# Altium footprint library mb1246b.brd.PcbLib: 73 footprints (part 1 of 6)
Each footprint in its own frame and in the unit in brackets; x right, y up, seen from the top. Pads: shape width x height; smd on the part's side, far side on the other; paste and mask are expansions set on the pad; w line width, h text height; cw(c..) or ccw(c..) is an arc to the next point about the centre after c.
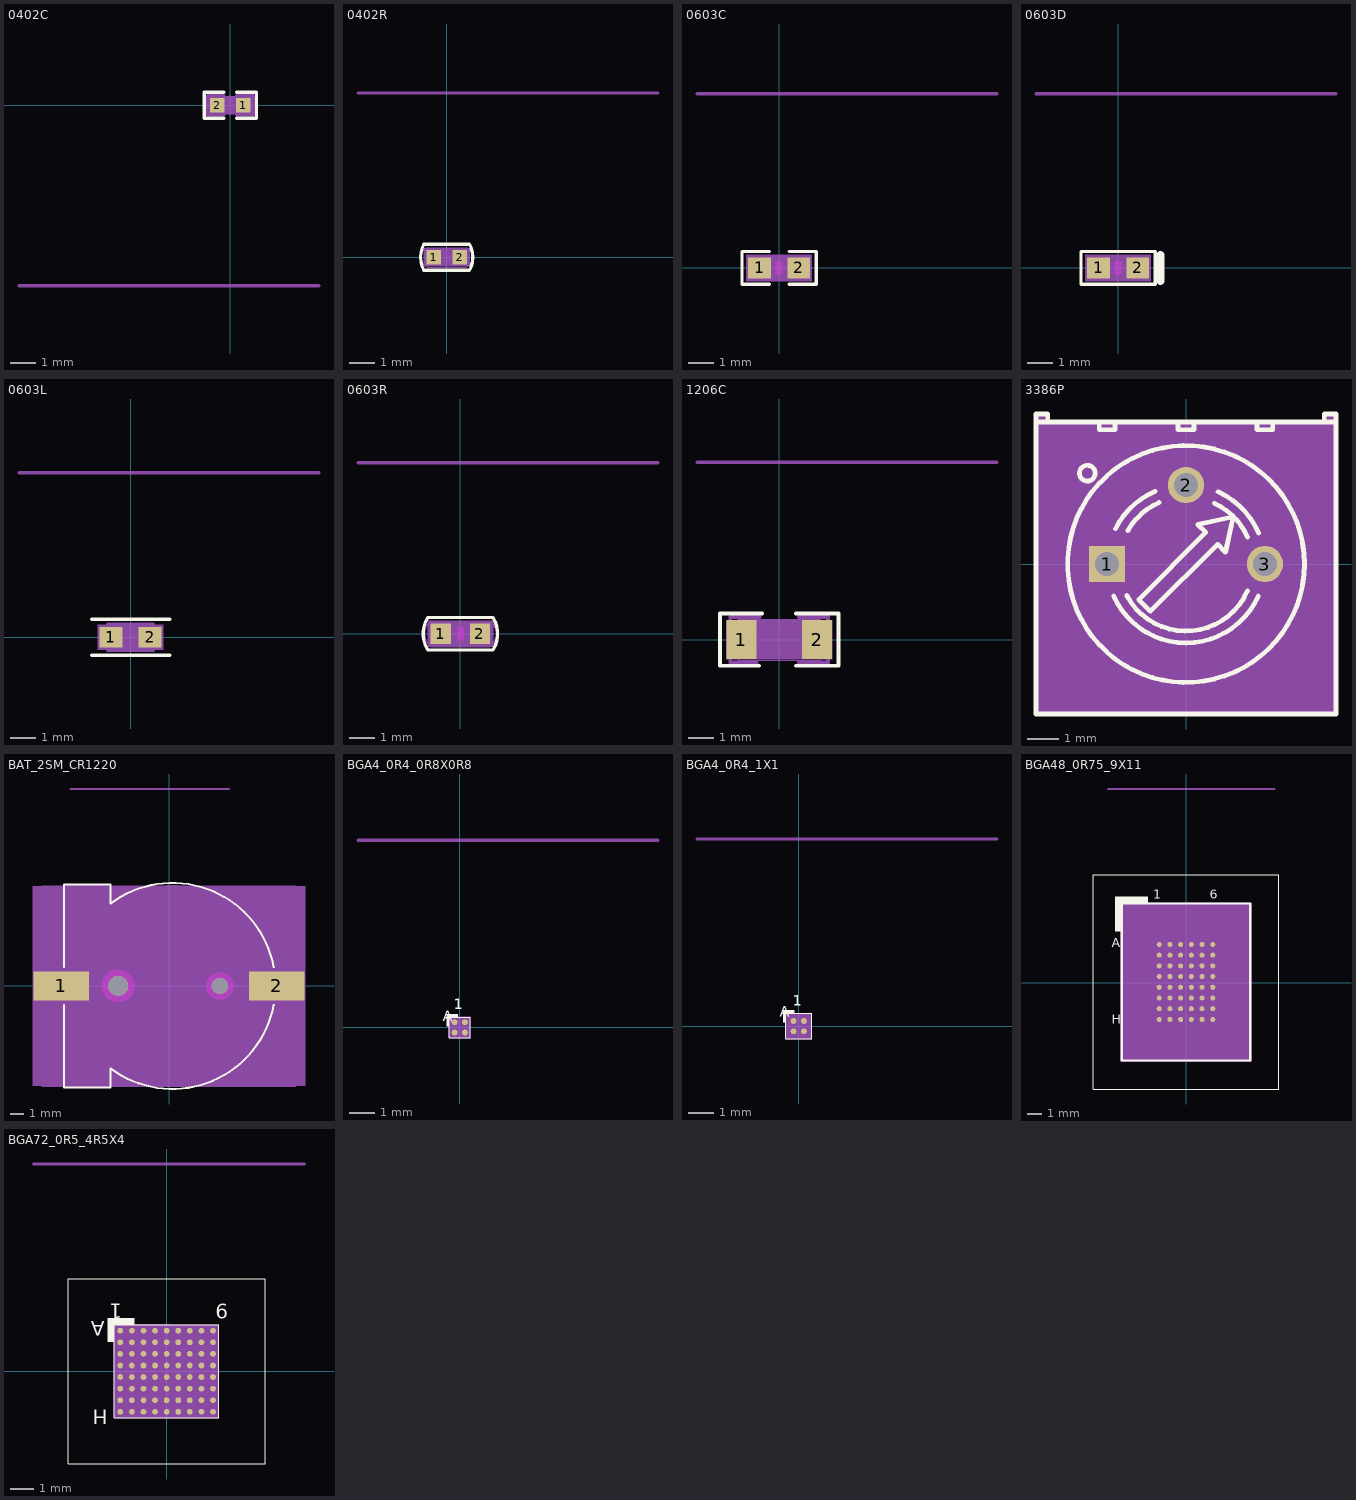
[diagram p0: the footprints below, top view; thin cyan lines are the x and y axes]

## 0402C [mil] "0402C"
pads (2):
  rect 22x22 smd: 1(20,0) 2(-20,0)
Top Overlay:
  lines w5: -10,-20 -40,-20 -40,20 -10,20 ; 10,-20 40,-20 40,20 10,20
Top 3D Body:
  region: 35,14 35,-14 -35,-14 -35,14
Top Component Center:
  circle w1: c0,0 r11.81
  lines w1: -15.75,0 15.75,0 ; 0,-15.75 0,15.75
Top Assembly:
  lines w5: -10,-15 -35,-15 -35,15 -10,15 ; 10,-15 35,-15 35,15 10,15
  text ".Designator" at -32,10 h20
  text "100nF" at -40,10 h20
Mechanical42:
  text "1" at 13.6,0 h16
  text "2" at -26.4,0 h16
Mechanical44:
  lines w5: -324,-277 136,-277
  text "Creat : Sofer Tech" at 106,-197 h25
  text "Sofer Lib Information" at 136,-287 h25
  text "Ref PN: ***" at 106,-237 h25
  text "Date  : 2008-12-12" at 106,-157 h25
  text "Rev   : A1" at 106,-117 h25
  text "Remark: ***" at 106,-77 h25
Mechanical45:
  text "C0402" at -50,65 h25
Mechanical46:
  text "NO" at -23,15 h35
Mechanical48:
  lines w1: -20,-10 20,-10 20,10 -20,10 -20,-10
3D body: height 150, standoff 0, extent -35,-14 35,14

## 0402R [mil] "0402R"
pads (2):
  rect 22x22 smd: 1(-20,0) 2(20,0)
Top Overlay:
  lines w5: -35,-20 cw(c2.5,0) -35,20 35,20 cw(c-2.5,0) 35,-20 -35,-20
Top 3D Body:
  region: -35,-14 -35,14 35,14 35,-14
Top Component Center:
  circle w1: c0,0 r11.81
  circle w1: c0,0 r11.81
  lines w1: -15.75,0 15.75,0 -15.75,0 ; 0,-15.75 0,15.75 0,-15.75
Top Assembly:
  lines w1: -30,-15 cw(c-23.75,0) -30,15 30,15 cw(c23.75,0) 30,-15 -30,-15
  text ".Designator" at -32,-10 h20
  text "10K" at -24,-10 h20
Mechanical42:
  text "2" at 13.6,0 h16
  text "1" at -26.4,0 h16
Mechanical44:
  lines w5: -136,252 324,252
  text "Creat : Sofer Tech" at -106,172 h25
  text "Sofer Lib Information" at -136,262 h25
  text "Ref PN: ***" at -106,212 h25
  text "Date  : 2007-11-24" at -106,132 h25
  text "Rev   : A4" at -106,92 h25
  text "Remark: ***" at -106,52 h25
Mechanical45:
  text "R0402" at -50,-55 h25
Mechanical48:
  lines w1: -20,-10 20,-10 20,10 -20,10 -20,-10
Mechanical49:
  text "Approved" at -77,-10 h35
3D body: height 150, standoff 0, extent -35,-14 35,14

## 0603C [mil] "0603C"
pads (2):
  rect 35x32 smd: 1(-30,0) 2(30,0)
Top Layer keep-out:
  region: -5,-10 5,-10 5,10 -5,10
Top Overlay:
  lines w5: -15,-25 -57,-25 -57,25 -15,25 ; 15,-25 57,-25 57,25 15,25
Top Courtyard:
  dashed: -50,-20 50,-20 50,20 -50,20
Top 3D Body:
  region: -50,-20 -50,20 50,20 50,-20
Top Component Center:
  circle w1: c0,0 r11.81
  lines w1: -15.75,0 15.75,0 ; 0,-15.75 0,15.75
Top Assembly:
  lines w1: -15,-20 -50,-20 -50,20 -30,20 -15,20 ; 15,-20 50,-20 50,20 15,20
  text ".Designator" at -40,-12.67 h25
  text "100nF" at -40,-10 h20
Mechanical42:
  text "2" at 23.6,0 h16
  text "1" at -36.4,0 h16
Mechanical44:
  lines w5: -126,267 334,267
  text "Sofer Lib Information" at -126,277 h25
  text "Ref PN: ***" at -96,227 h25
  text "Creat : Sofer Tech" at -96,187 h25
  text "Date  : 2007-05-10" at -96,147 h25
  text "Rev   : B1" at -96,107 h25
  text "Remark: ***" at -96,67 h25
Mechanical45:
  text "C0603" at -60,-65 h30
Mechanical48:
  lines w1: -35,-20 35,-20 35,20 -35,20 -35,-20
Mechanical49:
  text "Approved" at -112,0 h35
3D body: height 150, standoff 0, extent -50,-20 50,20

## 0603D [mil] "0603D"
pads (2):
  rect 35x32 smd: 1(-30,0) 2(30,0)
Top Layer keep-out:
  region: -5,-10 5,-10 5,10 -5,10
Top Overlay:
  lines w5: -57,-25 -57,25 57,25 57,-25 -57,-25
  lines w12: 65,-20 65,20
Top Courtyard:
  dashed: -50,-20 50,-20 50,20 -50,20
Top 3D Body:
  lines w1: -50,-20 -50,20 50,20 50,-20 -50,-20
Top Component Center:
  circle w1: c0,0 r11.81
  lines w1: -15.75,0 15.75,0 ; 0,-15.75 0,15.75
Top Assembly:
  dashed: 40,20 40,-20 50,-20 50,20
  lines w1: -15,-20 -50,-20 -50,20 -30,20 -15,20 ; 15,-20 50,-20 50,20 15,20
  text "Red" at -24,-10 h20
  text ".Designator" at -30,-12.67 h25
Mechanical42:
  text "2" at 23.6,0 h16
  text "1" at -36.4,0 h16
Mechanical44:
  lines w5: -126,267 334,267
  text "Rev   : B1" at -96,107 h25
  text "Date  : 2007-05-10" at -96,147 h25
  text "Creat : Sofer Tech" at -96,187 h25
  text "Ref PN: ***" at -96,227 h25
  text "Sofer Lib Information" at -126,277 h25
Mechanical45:
  text "d0603" at -60,-65 h30
Mechanical48:
  lines w1: -35,-20 -35,20 35,20 35,-20 -35,-20
Mechanical49:
  text "Approved" at -112,0 h35

## 0603L [mil] "0603L"
pads (2):
  rect 35x32 smd: 1(-30,0) 2(30,0)
Top Overlay:
  lines w5: -60,27.5 60,27.5 ; -15,-27.5 -60,-27.5 60,-27.5
Top Courtyard:
  dashed: -50,-19 50,-19 50,19 -50,19
Top 3D Body:
  region: -50,-19 50,-19 50,19 -50,19
Top Component Center:
  circle w1: c0,0 r11.81
  lines w1: -15.75,0 15.75,0 ; 0,-15.75 0,15.75
Top Assembly:
  lines w5: -35,-20 35,-20 ; -35,20 35,20
  text "BEAD" at 0,-123 h30
  text ".Designator" at 0,-36.67 h30
Mechanical42:
  text "2" at 30,-6.4 h16
  text "1" at -30,-6.4 h16
Mechanical44:
  lines w5: -171,252 289,252
  text "Remark: ***" at -141,52 h25
  text "Rev   : B1" at -141,92 h25
  text "Date  : 2007-11-27" at -141,132 h25
  text "Creat : Sofer Tech" at -141,172 h25
  text "Ref PN: ***" at -141,212 h25
  text "Sofer Lib Information" at -171,262 h25
Mechanical45:
  text "L0603" at -5,-130 h30
Mechanical48:
  lines w1: -35,-20 -35,20 35,20 35,-20 -35,-20
Mechanical49:
  text "Approved" at 15,-123.67 h35
3D body: height 150, standoff 0, extent -50,-19 50,19

## 0603R [mil] "0603R"
pads (2):
  rect 31x32 smd: 1(-30,0) 2(30,0)
Top Layer keep-out:
  region: -5,10 -5,-10 5,-10 5,10
Top Overlay:
  lines w5: -50,-25 cw(c-8.86,0) -50,25 50,25 cw(c8.86,0) 50,-25 -50,-25
Top Courtyard:
  dashed: -50,-20 50,-20 50,20 -50,20
Top 3D Body:
  region: -50,-20 -50,20 50,20 50,-20
Top Component Center:
  circle w1: c0,0 r11.81
  lines w1: -15.75,0 15.75,0 ; 0,-15.75 0,15.75
Top Assembly:
  lines w1: -45,-20 cw(c-30,0) -45,20 45,20 cw(c30,0) 45,-20 -45,-20
  text "220K" at -32,-10 h20
  text ".Designator" at -41,-12 h25
Mechanical42:
  text "2" at 23.6,0 h16
  text "1" at -36.4,0 h16
Mechanical44:
  lines w5: -157,262 303,262
  text "Remark: ***" at -127,62 h25
  text "Rev   : B1" at -127,102 h25
  text "Date  : 2007-05-10" at -127,142 h25
  text "Creat : Sofer Tech" at -127,182 h25
  text "Ref PN: ***" at -127,222 h25
  text "Sofer Lib Information" at -157,272 h25
Mechanical45:
  text "R0603" at -60,-65 h30
Mechanical48:
  lines w1: -35,-20 -35,20 35,20 35,-20 -35,-20
Mechanical49:
  text "Approved" at -112,0 h35
3D body: height 150, standoff 0, extent -50,-20 50,20

## 1206C [mil] "1206C"
pads (2):
  rect 46x60 smd: 1(-58,0) 2(58,0)
Top Overlay:
  lines w6: -31,-40 -91,-40 -91,40 -26,40 ; 26,-40 91,-40 91,40 26,40
Top 3D Body:
  region: -81,-30 81,-30 81,30 -81,30
Top Component Center:
  circle w1: c0,0 r11.81
  lines w1: -15.75,0 15.75,0 ; 0,-15.75 0,15.75
Top Assembly:
  lines w6: -35,-35 -75,-35 -75,35 -30,35 ; 30,-35 75,-35 75,35 30,35
  text "2.2uF[N_A]" at -10,-200 h30
  text ".Designator" at -51,-21.67 h35
Mechanical42:
  text "2" at 58,-6.4 h16
  text "1" at -58,-6.4 h16
Mechanical44:
  lines w5: -126,272 334,272
  text "Remark: ***" at -96,72 h25
  text "Rev   : C1" at -96,112 h25
  text "Date  : 2010-12-15" at -96,152 h25
  text "Creat : Sofer Tech" at -96,192 h25
  text "Ref PN: ***" at -96,232 h25
  text "Sofer Lib Information" at -126,282 h25
Mechanical45:
  text "C1206" at -10,-140 h30
Mechanical48:
  lines w1: -63,-31.5 -63,31.5 63,31.5 63,-31.5 -63,-31.5
Mechanical49:
  text "Approved" at 0,-112 h35
3D body: height 150, standoff 0, extent -81,-30 81,30

## 3386P [mil] "3386P"
pads (3):
  rect 46x46 / inner round 46 / far side rect 46x46 hole 30: 1(-100,0)
  round 46 hole 30: 2(0,100) 3(100,0)
Top Overlay:
  circle w6: c0,0 r150
  circle w6: c-125,115 r10
  lines w6: -190,180 -175,180 ; -110,180 -110,170 -90,170 -90,180 ; -91.38,-40.61 ccw(c0,0) 91.38,-40.61 ; -89.44,44.72 cw(c0,0) -38.81,92.16 ; -75,-40 ccw(c0,0) 77.87,-34.07 ; -73.8,42.17 cw(c0,0) -34.07,77.87 ; -10,180 -10,170 10,170 10,180 ; 35.95,77.03 cw(c-0.01,0.01) 77.87,34.07 ; 40.61,91.38 cw(c0,0) 92.16,38.81 ; 90,180 90,170 110,170 110,180 ; 190,180 175,180 ; -175,180 -175,190 -190,190 -190,-190 190,-190 190,190 175,190 175,180 ; -175,180 175,180 ; -60,-45 -45,-60 40,25 50,15 60,60 15,50 25,40 -60,-45
Top 3D Body:
  region: -190,-190 190,-190 190,180 190,190 175,190 175,180 -175,180 -175,190 -190,190 -190,180
Top Component Center:
  circle w1: c0,0 r11.81
  lines w1: -15.75,0 15.75,0 ; 0,-15.75 0,15.75
Top Assembly:
  circle w20: c-100,0 r10
  lines w1: -190,-190 -190,180 190,180 190,-190 -190,-190
  text ".Designator" at 63,-20 h40
Mechanical42:
  text "3" at 106.4,0 h16
  text "1" at -93.6,0 h16
  text "2" at 6.4,100 h16
3D body: height 150, standoff 0, extent -190,-190 190,190

## BAT_2SM_CR1220 [mil] "BAT_2SM_CR1220"
pads (4):
  rect 160x85 smd: 1(-312.99,0) 2(312.99,0)
  round 58 hole 58 unplated: ""(-147.64,0)
  round 47 hole 47 unplated: ""(147.64,0)
Top Layer keep-out:
  region: 187.35,0 186,10.28 182.03,19.86 175.72,28.08 167.49,34.39 157.92,38.36 147.64,39.71 137.36,38.36 127.78,34.39 119.56,28.08 113.25,19.86 109.28,10.28 107.93,0 109.28,-10.28 113.25,-19.86 119.56,-28.08 127.78,-34.39 137.36,-38.36 147.64,-39.71 157.92,-38.36 167.49,-34.39 175.72,-28.08 182.03,-19.86 186,-10.28
  region: -99.98,0 -101.61,12.33 -106.37,23.83 -113.94,33.7 -123.81,41.27 -135.3,46.03 -147.64,47.66 -159.97,46.03 -171.47,41.27 -181.34,33.7 -188.91,23.83 -193.67,12.33 -195.29,0 -193.67,-12.33 -188.91,-23.83 -181.34,-33.7 -171.47,-41.27 -159.97,-46.03 -147.64,-47.66 -135.3,-46.03 -123.81,-41.27 -113.94,-33.7 -106.37,-23.83 -101.61,-12.33
Top Overlay:
  lines w6: -305,-55 -305,-295 -170,-295 -170,-240 ; -305,55 -305,295 -170,295 -170,240 ; -169.53,-239.37 ccw(c10,0) 304.15,-54.84 ; -169.53,239.37 cw(c10,0) 304.15,54.84
Top 3D Body:
  region: -395,-290 -395,290 395,290 395,-290
Top Component Center:
  circle w1: c0,0 r11.81
  circle w1: c0,0 r11.81
  lines w1: -15.75,0 15.75,0 -15.75,0 ; 0,-15.75 0,15.75 0,-15.75
Top Assembly:
  lines w5: -175.03,-225.04 ccw(c10,0) 299,-36.87 ; -175.03,225.04 cw(c10,0) 299,36.87 ; -175,-225 -175,-291.34 -300.2,-291.34 -300.2,-36.42 -374.02,-36.42 -374.02,36.42 -300.2,36.42 -300.2,291.34 -175,291.34 -175,225 ; 300.2,-36.42 374.02,-36.42 374.02,36.42 300.2,36.42
  text "CR1220 holder" at -246,-400 h30
  text ".Designator" at -48,-20 h40
Mechanical42:
  text "1" at -319.39,0 h16
  text "2" at 306.59,0 h16
Mechanical44:
  lines w5: -286,572 174,572
  text "Remark: SHPX04_PRO05" at -256,372 h25
  text "Rev   : A1" at -256,412 h25
  text "Date  : 2008-04-16" at -256,452 h25
  text "Creat : Yuki" at -256,492 h25
  text "Ref PN: ***" at -256,532 h25
  text "Sofer Lib Information" at -286,582 h25
Mechanical45:
  text "battery4_19" at -257,-390 h30
Mechanical48:
  lines w1: -368.11,-291.34 -368.11,291.34 368.11,291.34 368.11,-291.34 -368.11,-291.34
Mechanical49:
  text "OK" at -28,0 h35
3D body: height 150, standoff 0, extent -395,-290 395,290

## BGA4_0R4_0R8X0R8 [mil] "BGA4_0R4_0R8X0R8"
pads (4):
  round 9 smd: A1(-7.87,7.87) A2(7.87,7.87) B1(-7.87,-7.87) B2(7.87,-7.87)
Top Overlay:
  dashed: -3,16 -3,20 -20,20 -20,2 -16,2 -16,16
  lines w1: -15.75,-15.75 -15.75,15.75 15.75,15.75 15.75,-15.75 -15.75,-15.75
  text "1" at -9,27.4 h16
  text "A" at -26,9.4 h16
  text ".Designator" at 30,0 h35
Top 3D Body:
  region: -16,-16 16,-16 16,16 -16,16
Top Component Center:
  circle w1: c0,0 r11.81
  lines w1: -15.75,0 15.75,0 ; 0,-15.75 0,15.75
Top Assembly:
  dashed: 7,16 -16,-7 -16,16
  lines w1: -15.75,-15.75 -15.75,15.75 15.75,15.75 15.75,-15.75 -15.75,-15.75
  text "ESDA14V2-2BF3" at 9,28 h30
Mechanical42:
  text "A1" at -7.87,15.67 h16
  text "B1" at -7.87,-0.07 h16
  text "B2" at 7.87,-0.07 h16
  text "A2" at 7.87,15.67 h16
Mechanical44:
  lines w5: -156,287 304,287
  text "Remark: LWF_PRO_01" at -126,87 h23.62
  text "Rev   : A1" at -126,127 h23.62
  text "Date  : 2010-12-13" at -126,167 h23.62
  text "Creat : Yuki" at -126,207 h23.62
  text "Ref PN: TPS22901YFPR" at -126,247 h23.62
  text "Sofer Lib Information" at -156,297 h23.62
Mechanical45:
  text "BGA4_0R4_0R8X0R8" at 19,74 h30
Mechanical49:
  text "OK" at 0,28 h35
3D body: height 150, standoff 0, extent -16,-16 16,16

## BGA4_0R4_1X1 [mil] "BGA4_0R4_1X1"
pads (4):
  round 9 smd: A1(-7.87,7.87) A2(7.87,7.87) B1(-7.87,-7.87) B2(7.87,-7.87)
Top Overlay:
  dashed: -7,20 -7,24 -24,24 -24,6 -20,6 -20,20
  lines w1: -19.69,-19.69 19.69,-19.69 19.69,19.69 -19.69,19.69 -19.69,-19.69
  text ".Designator" at -65,0 h35
  text "A" at -29,14.4 h16
  text "1" at -9,31.4 h16
Top 3D Body:
  region: -20,-20 20,-20 20,20 -20,20
Top Component Center:
  circle w1: c0,0 r11.81
  lines w1: -15.75,0 15.75,0 ; 0,-15.75 0,15.75
Top Assembly:
  dashed: 3,20 -20,-3 -20,20
  lines w1: -19.69,-19.69 19.69,-19.69 19.69,19.69 -19.69,19.69 -19.69,-19.69
  text "USBULC6-2F3" at 9,4 h30
Mechanical42:
  text "A2" at 7.87,15.67 h16
  text "A1" at -7.87,15.67 h16
  text "B2" at 7.87,-0.07 h16
  text "B1" at -7.87,-0.07 h16
Mechanical44:
  lines w5: -156,287 304,287
  text "Sofer Lib Information" at -156,297 h23.62
  text "Ref PN: USBULC6-2F3" at -126,247 h23.62
  text "Creat : Yuki" at -126,207 h23.62
  text "Date  : 2012-08-01" at -126,167 h23.62
  text "Rev   : A1" at -126,127 h23.62
  text "Remark: D031-006A1" at -126,87 h23.62
Mechanical45:
  text "BGA4_0R4_1X1" at 19,26 h30
Mechanical49:
  text "OK" at 0,28 h35
3D body: height 150, standoff 0, extent -20,-20 20,20

## BGA48_0R75_9X11 [mil] "BGA48_0R75_9X11"
pads (48):
  round 14 smd: A1(-73.82,105.85) A2(-44.29,105.85) A3(-14.76,105.85) A4(14.76,105.85) A5(44.29,105.85) A6(73.82,105.85) B1(-73.82,76.32) B2(-44.29,76.32) B3(-14.76,76.32) B4(14.76,76.32) B5(44.29,76.32) B6(73.82,76.32) C1(-73.82,46.79) C2(-44.29,46.79) C3(-14.76,46.79) C4(14.76,46.79) C5(44.29,46.79) C6(73.82,46.79) D1(-73.82,17.26) D2(-44.29,17.26) D3(-14.76,17.26) D4(14.76,17.26) D5(44.29,17.26) D6(73.82,17.26) E1(-73.82,-12.26) E2(-44.29,-12.26) E3(-14.76,-12.26) E4(14.76,-12.26) E5(44.29,-12.26) E6(73.82,-12.26) F1(-73.82,-41.79) F2(-44.29,-41.79) F3(-14.76,-41.79) F4(14.76,-41.79) F5(44.29,-41.79) F6(73.82,-41.79) G1(-73.82,-71.32) G2(-44.29,-71.32) G3(-14.76,-71.32) G4(14.76,-71.32) G5(44.29,-71.32) G6(73.82,-71.32) H1(-73.82,-100.85) H2(-44.29,-100.85) H3(-14.76,-100.85) H4(14.76,-100.85) H5(44.29,-100.85) H6(73.82,-100.85)
Top Overlay:
  dashed: -175,142.5 -195,142.5 -195,237.5 -105,237.5 -105,217.5 -175,217.5
  lines w1: -255.91,-292.78 -255.91,297.78 255.91,297.78 255.91,-292.78 -255.91,-292.78
  lines w6: -177.17,-214.04 -177.17,219.04 177.17,219.04 177.17,-214.04 -177.17,-214.04
  text "A" at -205,97.5 h25
  text "H" at -205,-112.5 h25
  text "1" at -90,232.5 h25
  text "6" at 65,232.5 h25
Top Courtyard:
  dashed: -180,-217.5 180,-217.5 180,217.5 -180,217.5
Top 3D Body:
  region: -175,-217.5 180,-217.5 180,217.5 -175,217.5
Top Component Center:
  circle w1: c0,2.5 r11.81
  lines w1: -15.75,2.5 15.75,2.5 ; 0,-13.25 0,18.25
Top Assembly:
  dashed: 45,217.5 -175,-2.5 -175,217.5
  lines w5: -177.17,-214.04 -177.17,219.04 177.17,219.04 177.17,-214.04 -177.17,-214.04
  text ".Designator" at -5,-60.5 h40
  text "IS61WV102416BLL-10MLI" at 5,-519.5 h30
Mechanical42:
  text "F4" at 14.76,-54.59 h16
  text "F3" at -14.76,-54.59 h16
  text "G4" at 14.76,-84.12 h16
  text "G3" at -14.76,-84.12 h16
  text "H5" at 44.29,-113.65 h16
  text "C4" at 14.76,33.99 h16
  text "C3" at -14.76,33.99 h16
  text "B4" at 14.76,63.52 h16
  text "B3" at -14.76,63.52 h16
  text "A5" at 44.29,93.05 h16
  text "A4" at 14.76,93.05 h16
  text "A3" at -14.76,93.05 h16
  text "G1" at -73.82,-84.12 h16
  text "F1" at -73.82,-54.59 h16
  text "F2" at -44.29,-54.59 h16
  text "E2" at -44.29,-25.06 h16
  text "D2" at -44.29,4.46 h16
  text "C2" at -44.29,33.99 h16
  text "C1" at -73.82,33.99 h16
  text "B1" at -73.82,63.52 h16
  text "G6" at 73.82,-84.12 h16
  text "F6" at 73.82,-54.59 h16
  text "D5" at 44.29,4.46 h16
  text "C6" at 73.82,33.99 h16
  text "C5" at 44.29,33.99 h16
  text "B6" at 73.82,63.52 h16
  text "B2" at -44.29,63.52 h16
  text "A1" at -73.82,93.05 h16
  text "A2" at -44.29,93.05 h16
  text "D1" at -73.82,4.46 h16
  text "E6" at 73.82,-25.06 h16
  text "E1" at -73.82,-25.06 h16
  text "A6" at 73.82,93.05 h16
  text "D6" at 73.82,4.46 h16
  text "E3" at -14.76,-25.06 h16
  text "G5" at 44.29,-84.12 h16
  text "B5" at 44.29,63.52 h16
  text "H4" at 14.76,-113.65 h16
  text "H3" at -14.76,-113.65 h16
  text "H2" at -44.29,-113.65 h16
  text "D4" at 14.76,4.46 h16
  text "F5" at 44.29,-54.59 h16
  text "E5" at 44.29,-25.06 h16
  text "H6" at 73.82,-113.65 h16
  text "G2" at -44.29,-84.12 h16
  text "H1" at -73.82,-113.65 h16
  text "D3" at -14.76,4.46 h16
  text "E4" at 14.76,-25.06 h16
Mechanical44:
  lines w5: -216,534.5 244,534.5
  text "Sofer Lib Information" at -216,544.5 h25
  text "Ref PN: IS61WV102416BLL-10MLI" at -186,494.5 h25
  text "Creat : Yuki" at -186,454.5 h25
  text "Date  : 2011-10-19" at -186,414.5 h25
  text "Rev   : A1" at -186,374.5 h25
  text "Remark: D031-005A1" at -186,334.5 h25
Mechanical45:
  text "BGA48_0R75_9X11" at 15,-442.5 h30
3D body: height 150, standoff 0, extent -175,-217.5 180,217.5

## BGA72_0R5_4R5X4 [mm] "BGA72_0R5_4R5X4"
pads (72):
  round 0.249 smd: A1(-2,1.75) A2(-1.5,1.75) A3(-1,1.75) A4(-0.5,1.75) A5(0,1.75) A6(0.5,1.75) A7(1,1.75) A8(1.5,1.75) A9(2,1.75) B1(-2,1.25) B2(-1.5,1.25) B3(-1,1.25) B4(-0.5,1.25) B5(0,1.25) B6(0.5,1.25) B7(1,1.25) B8(1.5,1.25) B9(2,1.25) C1(-2,0.75) C2(-1.5,0.75) C3(-1,0.75) C4(-0.5,0.75) C5(0,0.75) C6(0.5,0.75) C7(1,0.75) C8(1.5,0.75) C9(2,0.75) D1(-2,0.25) D2(-1.5,0.25) D3(-1,0.25) D4(-0.5,0.25) D5(0,0.25) D6(0.5,0.25) D7(1,0.25) D8(1.5,0.25) D9(2,0.25) E1(-2,-0.25) E2(-1.5,-0.25) E3(-1,-0.25) E4(-0.5,-0.25) E5(0,-0.25) E6(0.5,-0.25) E7(1,-0.25) E8(1.5,-0.25) E9(2,-0.25) F1(-2,-0.75) F2(-1.5,-0.75) F3(-1,-0.75) F4(-0.5,-0.75) F5(0,-0.75) F6(0.5,-0.75) F7(1,-0.75) F8(1.5,-0.75) F9(2,-0.75) G1(-2,-1.25) G2(-1.5,-1.25) G3(-1,-1.25) G4(-0.5,-1.25) G5(0,-1.25) G6(0.5,-1.25) G7(1,-1.25) G8(1.5,-1.25) G9(2,-1.25) H1(-2,-1.75) H2(-1.5,-1.75) H3(-1,-1.75) H4(-0.5,-1.75) H5(0,-1.75) H6(0.5,-1.75) H7(1,-1.75) H8(1.5,-1.75) H9(2,-1.75)
Top Overlay:
  dashed: -1.397,2.032 -1.397,2.286 -2.54,2.286 -2.54,1.27 -2.286,1.27 -2.286,2.032
  lines w0.025: -4.25,-4 4.25,-4 4.25,4 -4.25,4 -4.25,-4 ; -2.256,-2.011 2.256,-2.011 2.256,2.011 -2.256,2.011 -2.256,-2.011
  text ".Designator" at -1.651,5.588 h0.89
  text "1" at -1.905,2.921 h0.64
  text "9" at 2.667,2.921 h0.64
  text "A" at -2.667,2.159 h0.64
  text "H" at -2.54,-1.651 h0.64
Top Courtyard:
  dashed: -2.256,-2.011 2.256,-2.011 2.256,2.011 -2.256,2.011
Top 3D Body:
  region: -2.256,-2.011 2.256,-2.011 2.256,2.011 -2.256,2.011
Top Component Center:
  circle w0.025: c0,0 r0.3
  lines w0.025: -0.4,0 0.4,0 ; 0,-0.4 0,0.4
Top Assembly:
  dashed: -2.286,2.032 0.127,2.032 -2.286,-0.381
  lines w0.025: -2.256,-2.011 2.256,-2.011 2.256,2.011 -2.256,2.011 -2.256,-2.011
  text "WM8994ECS_R" at 3.48,-4.318 h0.76
Mechanical42:
  text "D3" at -0.76,0.25 h0.3
  text "A9" at 2.24,1.75 h0.3
  text "C6" at 0.74,0.75 h0.3
  text "D5" at 0.24,0.25 h0.3
  text "D4" at -0.26,0.25 h0.3
  text "H1" at -1.76,-1.75 h0.3
  text "A7" at 1.24,1.75 h0.3
  text "C9" at 2.24,0.75 h0.3
  text "D9" at 2.24,0.25 h0.3
  text "F1" at -1.76,-0.75 h0.3
  text "B3" at -0.76,1.25 h0.3
  text "H6" at 0.74,-1.75 h0.3
  text "G6" at 0.74,-1.25 h0.3
  text "H7" at 1.24,-1.75 h0.3
  text "G7" at 1.24,-1.25 h0.3
  text "G8" at 1.74,-1.25 h0.3
  text "H8" at 1.74,-1.75 h0.3
  text "E6" at 0.74,-0.25 h0.3
  text "A2" at -1.26,1.75 h0.3
  text "E4" at -0.26,-0.25 h0.3
  text "G1" at -1.76,-1.25 h0.3
  text "E3" at -0.76,-0.25 h0.3
  text "G3" at -0.76,-1.25 h0.3
  text "F2" at -1.26,-0.75 h0.3
  text "F3" at -0.76,-0.75 h0.3
  text "B6" at 0.74,1.25 h0.3
  text "D7" at 1.24,0.25 h0.3
  text "E1" at -1.76,-0.25 h0.3
  text "B1" at -1.76,1.25 h0.3
  text "H3" at -0.76,-1.75 h0.3
  text "H2" at -1.26,-1.75 h0.3
  text "C3" at -0.76,0.75 h0.3
  text "H4" at -0.26,-1.75 h0.3
  text "G4" at -0.26,-1.25 h0.3
  text "F4" at -0.26,-0.75 h0.3
  text "C4" at -0.26,0.75 h0.3
  text "B4" at -0.26,1.25 h0.3
  text "H5" at 0.24,-1.75 h0.3
  text "F6" at 0.74,-0.75 h0.3
  text "F5" at 0.24,-0.75 h0.3
  text "E5" at 0.24,-0.25 h0.3
  text "C5" at 0.24,0.75 h0.3
  text "B5" at 0.24,1.25 h0.3
  text "A6" at 0.74,1.75 h0.3
  text "C7" at 1.24,0.75 h0.3
  text "B7" at 1.24,1.25 h0.3
  text "F9" at 2.24,-0.75 h0.3
  text "F8" at 1.74,-0.75 h0.3
  text "C8" at 1.74,0.75 h0.3
  text "B9" at 2.24,1.25 h0.3
  text "B8" at 1.74,1.25 h0.3
  text "A8" at 1.74,1.75 h0.3
  text "G2" at -1.26,-1.25 h0.3
  text "D8" at 1.74,0.25 h0.3
  text "D1" at -1.76,0.25 h0.3
  text "G9" at 2.24,-1.25 h0.3
  text "E9" at 2.24,-0.25 h0.3
  text "C2" at -1.26,0.75 h0.3
  text "B2" at -1.26,1.25 h0.3
  text "D2" at -1.26,0.25 h0.3
  text "F7" at 1.24,-0.75 h0.3
  text "A5" at 0.24,1.75 h0.3
  text "E8" at 1.74,-0.25 h0.3
  text "E7" at 1.24,-0.25 h0.3
  text "D6" at 0.74,0.25 h0.3
  text "A4" at -0.26,1.75 h0.3
  text "A3" at -0.76,1.75 h0.3
  text "E2" at -1.26,-0.25 h0.3
  text "A1" at -1.76,1.75 h0.3
  text "C1" at -1.76,0.75 h0.3
  text "G5" at 0.24,-1.25 h0.3
  text "H9" at 2.24,-1.75 h0.3
Mechanical44:
  lines w0.127: -5.74,8.941 5.944,8.941
  text "Sofer Lib Information" at -5.74,9.195 h0.64
  text "Ref PN: WM8994 WCSP72" at -4.978,7.925 h0.64
  text "Creat : Yuki" at -4.978,6.909 h0.64
  text "Date  : 2011-07-18" at -4.978,5.893 h0.64
  text "Rev   : A1" at -4.978,4.877 h0.64
  text "Remark: D056-006A1" at -4.978,3.861 h0.64
Mechanical45:
  text "BGA72_0R5_4R5X4" at 5.207,-4.318 h0.76
Mechanical49:
  text "OK" at 0.711,0 h0.89
3D body: height 3.81, standoff 0, extent -2.256,-2.011 2.256,2.011